# Altium schematic symbol library REF1925AIDDC.SchLib: 1 symbol
Pins are listed as number, name and electrical type; pins without a type are passive.

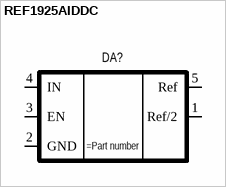
[diagram p0: symbol REF1925AIDDC]

## REF1925AIDDC
designator DA?
20mA, x Low-Drift, Low-Power, Dual-Output, VREF and VREF / 2 Voltage Reference
pins: 1 Ref/2, 2 GND, 3 EN, 4 IN, 5 Ref